# Altium integrated library CURRENT_TRANSFORMER.IntLib: 2 symbols
Pins are listed as number, name and electrical type; pins without a type are passive.

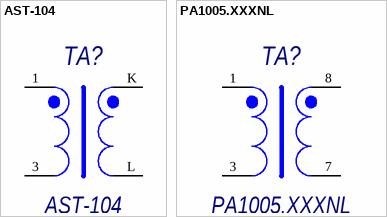
[diagram p0: symbols AST-104 to PA1005.XXXNL]

## AST-104
designator TA?
Трансформатор тока; ComponentType: Трансформатор тока; ComponentDescription: =ComponentType+', '+Comment+', '+Package; Type: SMT
footprint PE-51686NL (THT Current Sense)
pins: 1, 3, K, L

## PA1005.XXXNL
designator TA?
Трансформатор тока; ComponentType: Трансформатор тока; ComponentDescription: =ComponentType+', '+Comment+', '+Package; Type: SMT
footprint PA1005.XXXNL (SMT Current Sense Transformers)
pins: 1, 3, 7, 8